# Altium schematic symbol library TLV76750DRVR.SchLib: 1 symbol
Pins are listed as number, name and electrical type; pins without a type are passive.

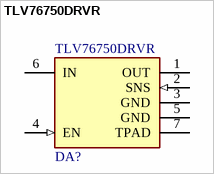
[diagram p0: symbol TLV76750DRVR]

## TLV76750DRVR
designator DA?
Active Positive NO LEAD BIPOLAR Linear Voltage Regulator IC -40C~125C TJ 1A 2mm 0.9V
footprint FP-DRV0006A-IPC_C
footprint FP-DRV0006A-IPC_A
footprint FP-DRV0006A-IPC_B
footprint FP-DRV0006A-MFG
pins: 1 OUT (power), 2 SNS (in), 3 GND (power), 4 EN (in), 5 GND (power), 6 IN (power), 7 TPAD